# EAGLE library part ADXL362 (library ADXL362)
IC ACCEL DIG LO PWR 3AX 16LGA
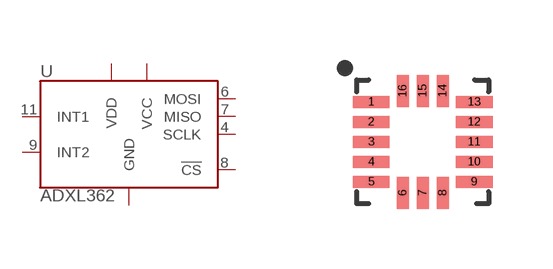
[diagram p0: symbol with the pads of TFLGA-16/3.3MMX3.1MM; footprint TFLGA-16/3.3MMX3.1MM]

Designator prefix U

## ADXL362 (AVAILABILITY: Unavailable; DESCRIPTION: Accelerometer X, Y, Z Axis ±2g, 4g, 8g 6.25Hz ~ 400Hz 16-LGA (3x3.25); MF: Analog Devices; MP: ADXL362; PACKAGE: LGA-16 Analog Devices; PRICE: None)  [TFLGA-16/3.3MMX3.1MM]
1  VDD
4  SCLK
6  MOSI
7  MISO
8  !CS
9  INT2
11  INT1
12  GND
13  GND
14  VCC
16  GND

## Footprint TFLGA-16/3.3MMX3.1MM (pad centres in mm)
smd 0.925 x 0.3: 1 -1.288,1; 2 -1.288,0.5; 3 -1.288,0; 4 -1.288,-0.5; 5 -1.288,-1; 9 1.288,-1; 10 1.288,-0.5; 11 1.288,0; 12 1.288,0.5; 13 1.288,1
smd 0.3 x 0.8: 6 -0.5,-1.275; 7 0,-1.275; 8 0.5,-1.275; 14 0.5,1.275; 15 0,1.275; 16 -0.5,1.275